# Altium schematic symbol library TXS0101DCKR.SchLib: 2 symbols
Pins are listed as number, name and electrical type; pins without a type are passive.

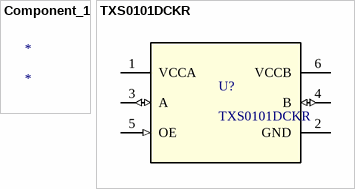
[diagram p0: symbols Component_1 to TXS0101DCKR]

## Component_1
designator *
footprint XCVR_ESP32-S2-SOLO-U-N4R2

## TXS0101DCKR
designator U?
No Description Available; Mfr_Name: Texas Instruments; Type: DEV; RefDes: RefDes; Copyright: Copyright (C) 2022 Ultra Librarian. All rights reserved.; Manufacturer_Part_Number: TXS0101DCKR
footprint DCK0006A_N
pins: 1 VCCA (power), 2 GND (power), 3 A (io), 4 B (io), 5 OE (in), 6 VCCB (power)